# Altium schematic symbol library DB15.SchLib: 1 symbol
Pins are listed as number, name and electrical type; pins without a type are passive.

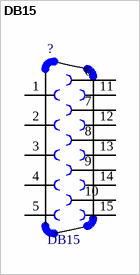
[diagram p0: symbol DB15]

## DB15
designator ?
Conn, f, 15rgb, 1 Piece; MF: Belden Inc.; SnapEDA_Link: https://www.snapeda.com/parts/DB15/Belden%20Inc./view-part/?ref=snap; Price: None; Availability: Unavailable; Package: None; MP: DB15; Value: *
footprint *DB15
pins: 1, 2, 3, 4, 5, 6, 7, 8, 9, 10, 11, 12, 13, 14, 15